# EAGLE library part PETERATMEGA644_MMA7455 (library microtouch)
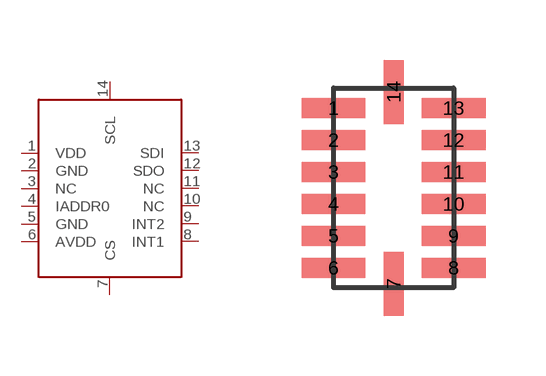
[diagram p2: symbol with the pads of PETERATMEGA644_LGA; footprint PETERATMEGA644_LGA]

Designator prefix -

## PETERATMEGA644_MMA7455  [PETERATMEGA644_LGA]
1  VDD
2  GND
3  NC
4  IADDR0
5  GND
6  AVDD
7  CS
8  INT1
9  INT2
10  NC
11  NC
12  SDO
13  SDI
14  SCL

## Footprint PETERATMEGA644_LGA (pad centres in mm)
smd 1.6 x 0.5: 1 -1.5,2; 2 -1.5,1.2; 3 -1.5,0.4; 4 -1.5,-0.4; 5 -1.5,-1.2; 6 -1.5,-2; 8 1.5,-2; 9 1.5,-1.2; 10 1.5,-0.4; 11 1.5,0.4; 12 1.5,1.2; 13 1.5,2
smd 0.5 x 1.6: 7 0,-2.4; 14 0,2.4